# EAGLE library part TC4422AVOA (library TC4422AVOA)
Low-Side Gate Driver IC Non-Inverting 8-SOIC Source: Datasheet <http://ww1.microchip.com/downloads/en/DeviceDoc/21946B.pdf>
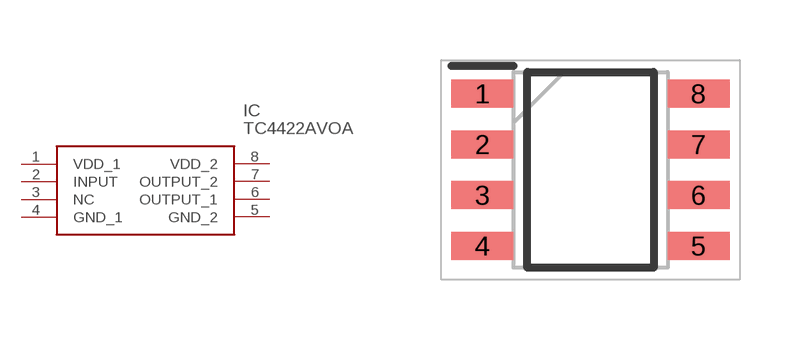
[diagram p0: symbol with the pads of SOIC127P600X175-8N; footprint SOIC127P600X175-8N]

Designator prefix IC

## TC4422AVOA (Description: Low-Side Gate Driver IC Non-Inverting 8-SOIC; Height: 1.75mm; Manufacturer_Name: Microchip; Manufacturer_Part_Number: TC4422AVOA; Mouser_Part_Number: 579-TC4422AVOA; Mouser_Price-Stock: https://www.mouser.co.uk/ProductDetail/Microchip-Technology/TC4422AVOA?qs=n%2FfJlMG9rCZBk%252B8yYo056w%3D%3D)  [SOIC127P600X175-8N]
1  VDD_1
2  INPUT
3  NC  nc
4  GND_1
5  GND_2
6  OUTPUT_1
7  OUTPUT_2
8  VDD_2

## Footprint SOIC127P600X175-8N (pad centres in mm)
(OA)8-Lead(SOIC)
smd 1.55 x 0.7: 1 -2.7,1.905; 2 -2.7,0.635; 3 -2.7,-0.635; 4 -2.7,-1.905; 5 2.7,-1.905; 6 2.7,-0.635; 7 2.7,0.635; 8 2.7,1.905